# EAGLE library part MOLEX-502352-1000 (library h8-conector)
Molex DuraClik Wire-to-Board Header, Single Row, Right Angle, 10 Circuits - 5023521000 Features: SMD Pole: 10 Rows: 1 Grid: 2 mm Current: 3A Rated voltage: 125V Can be used with : Molex 502351 Molex 560123 Molex 505151 Description: Die Molex DuraClik™ Draht-zu-Platine-Steckverbinder mit einem 2,0mm (0,079 Zoll) Rastermaß sind für Bordinstrumentenanwendungen ausgelegt, die in Umgebungen mit hohen Schwingungen betrieben werden. Die einreihigen, rechtwinkligen SMT-Anschlüsse mit positivem Riegel sind robuster als die meisten 2,00mm-Rastermaß-Systeme und verfügen zur Bestätigung der Kopplung sowie der Polarisierungsfunktionen über einen hörbaren und spürbaren Klick zur Verhinderung einer Fehlsteckung. Das sichere Innenverriegelungssystem gewährleistet eine vollständige Verriegelung des Steckverbinders, vermeidet ein Lösen der Verriegelung bei der Handhabung und spart Platz im Vergleich zu Außenverriegelungssystemen. Dank einer breiten Lötfahne bietet der DuraClik einen Zugwiderstand nach oben von 100N (10kgf) und hält somit die Platine in Anwendungen mit hohen Schwingungen fest am Platz. Homepage : https://www.molex.com/molex/products/datasheet.jsp?part=active/5023521000_PCB_HEADERS.xml Datasheet: https://www.molex.com/webdocs/datasheets/pdf/en-us/5023521000_PCB_HEADERS.pdf Drawing: https://www.molex.com/pdm_docs/sd/5023521000_sd.pdf 3D-Model: https://www.molex.com/molex/part/partModels.jsp?&prodLevel=part&partNo=5023521000&channel=products Created by Hans Achterbahn (https://github.com/HansAchterbahn)
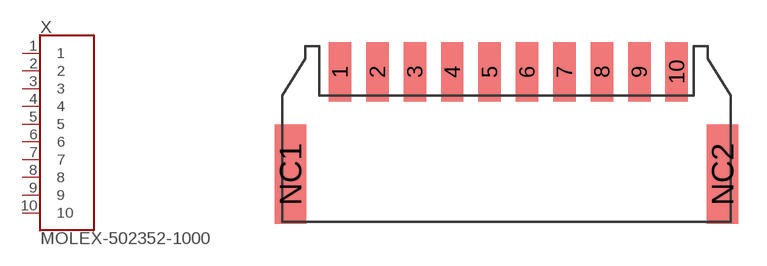
[diagram p7: symbol with the pads of MOLEX-502352-1000; footprint MOLEX-502352-1000]

Designator prefix X

## MOLEX-502352-1000  [MOLEX-502352-1000]
1  1  pas
2  2  pas
3  3  pas
4  4  pas
5  5  pas
6  6  pas
7  7  pas
8  8  pas
9  9  pas
10  10  pas

## Footprint MOLEX-502352-1000 (pad centres in mm)
Molex DuraClik Wire-to-Board Header, Single Row, Right Angle, 10 Circuits - 5023521000 Features: SMD Pole: 10 Rows: 1 Grid: 2 mm Current: 3A Rated voltage: 125V Can be used with : Molex 502351 Molex 560123 Molex 505151 Description: Die Molex DuraClik™ Draht-zu-Platine-Steckverbinder mit einem 2,0mm (0,079 Zoll) Rastermaß sind für Bordinstrumentenanwendungen ausgelegt, die in Umgebungen mit hohen Schwingungen betrieben werden. Die einreihigen, rechtwinkligen SMT-Anschlüsse mit positivem Riegel sind robuster als die meisten 2,00mm-Rastermaß-Systeme und verfügen zur Bestätigung der Kopplung sowie der Polarisierungsfunktionen über einen hörbaren und spürbaren Klick zur Verhinderung einer Fehlsteckung. Das sichere Innenverriegelungssystem gewährleistet eine vollständige Verriegelung des Steckverbinders, vermeidet ein Lösen der Verriegelung bei der Handhabung und spart Platz im Vergleich zu Außenverriegelungssystemen. Dank einer breiten Lötfahne bietet der DuraClik einen Zugwiderstand nach oben von 100N (10kgf) und hält somit die Platine in Anwendungen mit hohen Schwingungen fest am Platz. Homepage : https://www.molex.com/molex/products/datasheet.jsp?part=active/5023521000_PCB_HEADERS.xml Datasheet: https://www.molex.com/webdocs/datasheets/pdf/en-us/5023521000_PCB_HEADERS.pdf Drawing: https://www.molex.com/pdm_docs/sd/5023521000_sd.pdf 3D-Model: https://www.molex.com/molex/part/partModels.jsp?&prodLevel=part&partNo=5023521000&channel=products Created by Hans Achterbahn (https://github.com/HansAchterbahn)
smd 1.2 x 3.2: 1 3.1,8.03; 2 5.1,8.03; 3 7.1,8.03; 4 9.1,8.03; 5 11.1,8.03; 6 13.1,8.03; 7 15.1,8.03; 8 17.1,8.03; 9 19.1,8.03; 10 21.1,8.03
smd 1.7 x 5.3: NC1 0.45,2.55; NC2 23.55,2.55